# Altium integrated library WJ45C.IntLib: 2 symbols
Pins are listed as number, name and electrical type; pins without a type are passive.

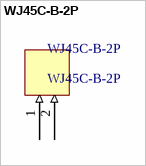
[diagram p0: symbol WJ45C-B-2P]

## WJ45C-B-2P
designator WJ45C-B-2P
footprint WJ45C-B-2P
pins: 1 (in), 2 (in)


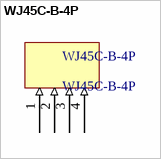
[diagram p1: symbol WJ45C-B-4P]

## WJ45C-B-4P
designator WJ45C-B-4P
footprint WJ45C-B-4P
pins: 1 (in), 2 (in), 3 (in), 4 (in)